# Altium schematic symbol library klpfly_v1_0.SCHLIB: 22 symbols
Pins are listed as number, name and electrical type; pins without a type are passive.

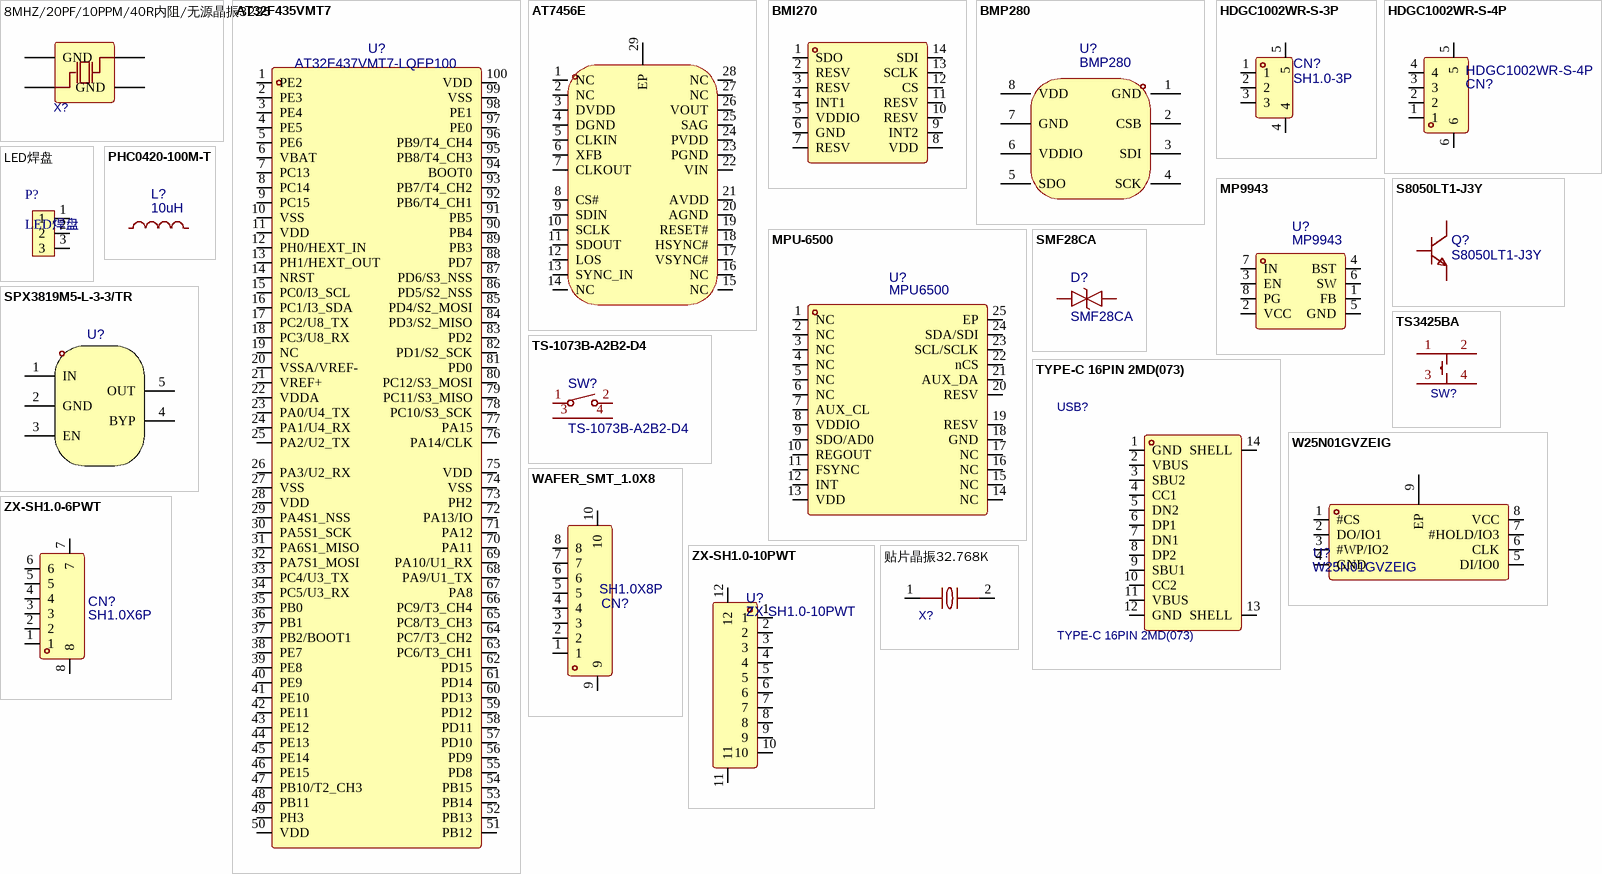
[diagram p0: symbols 8MHZ/20PF/10PPM/40R内阻/无源晶振3225 to 贴片晶振32.768K]

## 8MHZ/20PF/10PPM/40R内阻/无源晶振3225
designator X?  (value not drawn)
Manufacturer: null; Contributor: lcsc; Supplier: LCSC; Supplier Part: C9900023313; Manufacturer Part: 8Mhz/20PF/10PPM/40R内阻/无源晶振3225; JLCPCB Part Class: Extended Part; spicePre: X; spiceSymbolName: 8MHZ/20PF/10PPM/40R内阻/无源晶振3225
footprint CRYSTAL-SMD_4P-L3.2-W2.5-BL
pins: 1 OSC1, 2 GND, 3 OSC2, 4 GND

## AT32F435VMT7
designator U?, comment AT32F437VMT7-LQFP100
Manufacturer: ARTERY（雅特力）; Device: AT32F435VMT7; Convert to PCB: yes; UniqueId: ggece277d5420079038; OriginModelName: LQFP-100_L14.0-W14.0-H1.4-LS16.0-P0.50; ModelTransform: 629.921,629.921,0,270,0,0,0,0,0; Supplier: LCSC; Supplier Part: C3029578; Manufacturer Part: AT32F435VMT7; link: https://atta.szlcsc.com/upload/public/pdf/source/20220608/9A6D4578C11CEA8ECA586071DFEBC06A.pdf; Add into BOM: yes; SymbolName: AT32F437VMT7-LQFP100; FootprintName: LQFP-100_L14.0-W14.0-P0.50-LS16.0-TL
footprint LQFP-100_L14.0-W14.0-P0.50-LS16.0-TL
pins: 1 PE2, 2 PE3, 3 PE4, 4 PE5, 5 PE6, 6 VBAT, 7 PC13, 8 PC14, 9 PC15, 10 VSS, 11 VDD, 12 PH0/HEXT_IN, 13 PH1/HEXT_OUT, 14 NRST, 15 PC0/I3_SCL, 16 PC1/I3_SDA, 17 PC2/U8_TX, 18 PC3/U8_RX, 19 NC, 20 VSSA/VREF-, 21 VREF+, 22 VDDA, 23 PA0/U4_TX, 24 PA1/U4_RX, 25 PA2/U2_TX, 26 PA3/U2_RX, 27 VSS, 28 VDD, 29 PA4S1_NSS, 30 PA5S1_SCK, 31 PA6S1_MISO, 32 PA7S1_MOSI, 33 PC4/U3_TX, 34 PC5/U3_RX, 35 PB0, 36 PB1, 37 PB2/BOOT1, 38 PE7, 39 PE8, 40 PE9, 41 PE10, 42 PE11, 43 PE12, 44 PE13, 45 PE14, 46 PE15, 47 PB10/T2_CH3, 48 PB11, 49 PH3, 50 VDD, 51 PB12, 52 PB13, 53 PB14, 54 PB15, 55 PD8, 56 PD9, 57 PD10, 58 PD11, 59 PD12, 60 PD13, 61 PD14, 62 PD15, 63 PC6/T3_CH1, 64 PC7/T3_CH2, 65 PC8/T3_CH3, 66 PC9/T3_CH4, 67 PA8, 68 PA9/U1_TX, 69 PA10/U1_RX, 70 PA11, 71 PA12, 72 PA13/IO, 73 PH2, 74 VSS, 75 VDD, 76 PA14/CLK, 77 PA15, 78 PC10/S3_SCK, 79 PC11/S3_MISO, 80 PC12/S3_MOSI, 81 PD0, 82 PD1/S2_SCK, 83 PD2, 84 PD3/S2_MISO, 85 PD4/S2_MOSI, 86 PD5/S2_NSS, 87 PD6/S3_NSS, 88 PD7, 89 PB3, 90 PB4, 91 PB5, 92 PB6/T4_CH1, 93 PB7/T4_CH2, 94 BOOT0, 95 PB8/T4_CH3, 96 PB9/T4_CH4, 97 PE0, 98 PE1, 99 VSS, 100 VDD

## AT7456E
designator U??  (value not drawn)
Symbol: AT7456E
footprint TSSOP-28_L9.7-W4.4-P0.65-LS6.4-BL-EP-2
pins: 1 NC, 2 NC, 3 DVDD, 4 DGND, 5 CLKIN, 6 XFB, 7 CLKOUT, 8 CS#, 9 SDIN, 10 SCLK, 11 SDOUT, 12 LOS, 13 SYNC_IN, 14 NC, 15 NC, 16 NC, 17 VSYNC#, 18 HSYNC#, 19 RESET#, 20 AGND, 21 AVDD, 22 VIN, 23 PGND, 24 PVDD, 25 SAG, 26 VOUT, 27 NC, 28 NC, 29 EP

## BMI270
designator SDO?  (value not drawn)
Convert to PCB: yes; UniqueId: ggebe24d6cd85f7bebd; OriginModelName: LGA-14_L2.5-W3.0-H0.9-P0.50; ModelTransform: 118.11,98.425,0,0,0,0,0,0.001,0; Device: BMI270; Supplier: InvenSense; link: https://3cfeqx1hf82y3xcoull08ihx-wpengine.netdna-ssl.com/wp-content/uploads/2020/09/DS-000347-ICM-42688-P-v1.3.pdf; Add into BOM: yes; SymbolName: BMI270; FootprintName: LGA-14_L3.0-W2.5-P0.50-TL
footprint LGA-14_L3.0-W2.5-P0.50-TL
pins: 1 SDO, 2 RESV, 3 RESV, 4 INT1, 5 VDDIO, 6 GND, 7 RESV, 8 VDD, 9 INT2, 10 RESV, 11 RESV, 12 CS, 13 SCLK, 14 SDI

## BMP280
designator U?
Manufacturer: Bosch; Convert to PCB: yes; UniqueId: gge447de30e0e3d1cf2; OriginModelName: LGA-8_L2.0-W2.5-H1.0-P0.65; ModelTransform: 98.425,78.74,0,270,0,0,0.005,-0.001,0; Device: BMP280; Supplier: LCSC; Manufacturer Part: BMP280; Supplier Part: C83291; JLCPCB Part Class: Extended Part; Add into BOM: yes; SymbolName: BMP280; FootprintName: SENSOR-TH_BMP280-BL
footprint SENSOR-TH_BMP280-BL
pins: 1 GND, 2 CSB, 3 SDI, 4 SCK, 5 SDO, 6 VDDIO, 7 GND, 8 VDD

## HDGC1002WR-S-3P
designator CN?, comment SH1.0-3P
SH1.0 3P; Manufacturer: HDGC(华德共创); Device: HDGC1002WR-S-3P; Convert to PCB: yes; UniqueId: gge2ce44b7eaad9832b; OriginModelName: CONN-SMD_3P-P1.00_HDGC_HDGC1002WR-S-3P; ModelTransform: 210.63,196.85,0,0,0,0,0,-9.565,0; Supplier: LCSC; Supplier Part: C2936213; Manufacturer Part: HDGC1002WR-S-3P; JLCPCB Part Class: Extended Part; Add into BOM: yes; SymbolName: SH1.0-3P; FootprintName: CONN-SMD_3P-P1.00_HDGC_HDGC1002WR-S-3P
footprint CONN-SMD_3P-P1.00_HDGC_HDGC1002WR-S-3P
pins: 1, 2, 3, 4, 5

## HDGC1002WR-S-4P
designator CN?
SH1.0 4P; Manufacturer: HDGC(华德共创); Convert to PCB: yes; UniqueId: ggee5a51ee7bd50bb1d; OriginModelName: CONN-SMD_4P-P1.00_HDGC_HDGC1002WR-S-4P; ModelTransform: 249.9995,196.85,0,0,0,0,0,-5.906,0; Device: HDGC1002WR-S-4P; Supplier: LCSC; Supplier Part: C2936214; Manufacturer Part: HDGC1002WR-S-4P; JLCPCB Part Class: Extended Part; Add into BOM: yes; SymbolName: HDGC1002WR-S-4P; FootprintName: CONN-SMD_4P-P1.00_HDGC_HDGC1002WR-S-4P
footprint CONN-SMD_4P-P1.00_HDGC_HDGC1002WR-S-4P
pins: 1, 2, 3, 4, 5, 6

## LED焊盘
designator P?
footprint 3P
pins: 1, 2, 3

## MP9943
designator U?
Convert to PCB: yes; UniqueId: ggeb87cc7bca5c8949e; Device: MP9943; Add into BOM: yes; SymbolName: MP9943; FootprintName: QFN-8-3X3
footprint QFN-8-3X3
pins: 1 FB, 2 VCC, 3 EN, 4 BST, 5 GND, 6 SW, 7 IN, 8 PG

## MPU-6500
designator U?, comment MPU6500
Manufacturer: TDK InvenSense(应美盛); Convert to PCB: yes; UniqueId: gge6fb0faa0bb8ee760; OriginModelName: QFN-24_L3.0-W3.0-H0.9-P0.40-BL-EP; ModelTransform: 118.11,118.11,0,90,0,0,0,0,0; Device: MPU-6500; Supplier: LCSC; Manufacturer Part: MPU-6500; Supplier Part: C50278; JLCPCB Part Class: Extended Part; Add into BOM: yes; SymbolName: MPU6500; FootprintName: QFN-24_L3.0-W3.0-P0.40-BL-EP
footprint QFN-24_L3.0-W3.0-P0.40-BL-EP
pins: 1 NC, 2 NC, 3 NC, 4 NC, 5 NC, 6 NC, 7 AUX_CL, 8 VDDIO, 9 SDO/AD0, 10 REGOUT, 11 FSYNC, 12 INT, 13 VDD, 14 NC, 15 NC, 16 NC, 17 NC, 18 GND, 19 RESV, 20 RESV, 21 AUX_DA, 22 nCS, 23 SCL/SCLK, 24 SDA/SDI, 25 EP

## PHC0420-100M-T
designator L?, comment 10uH
Manufacturer: EMTEK; Device: PHC0420-100M-T; Convert to PCB: yes; UniqueId: gge99af4ca34bfde78c; OriginModelName: IND-SMD_L4.4-W4.0-H1.2_PHC0420; ModelTransform: 175.1965,159.842,0,0,0,0,0,0,0; Supplier: LCSC; Supplier Part: C251694; Manufacturer Part: PHC0420-100M-T; Add into BOM: yes; SymbolName: 10uH; FootprintName: IND-SMD_L4.4-W4.0_PHC0420
footprint IND-SMD_L4.4-W4.0_PHC0420
pins: 1, 2

## S8050LT1-J3Y
designator Q?
Manufacturer: FH(风华); Convert to PCB: yes; UniqueId: gge1c8eb3e3ebf663b6; OriginModelName: SOT-23-3P_L2.9-W1.3-H1.0-LS2.4-P0.95; ModelTransform: 98.64468,114.173,0,180,0,0,0.001,0.001,0; Device: S8050LT1-J3Y; Supplier: LCSC; Supplier Part: C2962087; Manufacturer Part: S8050LT1-J3Y; link: https://atta.szlcsc.com/upload/public/pdf/source/20220411/740B3F4857AB400E9826209E74F1EDA4.pdf; Add into BOM: yes; SymbolName: S8050LT1-J3Y; FootprintName: SOT-23_L2.9-W1.3-P1.90-LS2.4-BR
footprint SOT-23_L2.9-W1.3-P1.90-LS2.4-BR
pins: 1, 2, 3

## SMF28CA
designator D?
Manufacturer: AnBon(安邦); Convert to PCB: yes; UniqueId: gge8336ca0810bb463b; OriginModelName: SOD-123_L2.7-W1.8-LS3.7-BI; ModelTransform: 145.669,70.866,0,0,0,0,0,0,0; Device: SMF28CA; Supplier: LCSC; Supplier Part: C435496; Manufacturer Part: SMF28CA; JLCPCB Part Class: Extended Part; link: https://so.szlcsc.com/global.html?k=C435496&ref=editor; Add into BOM: yes; SymbolName: SMF28CA; FootprintName: SOD-123_L2.7-W1.8-LS3.7-BI
footprint SOD-123_L2.7-W1.8-LS3.7-BI
pins: 1, 2

## SPX3819M5-L-3-3/TR
designator U?  (value not drawn)
Manufacturer: MaxLinear(迈凌); Convert to PCB: yes; UniqueId: gge70c12bce5ebcd7d5; OriginModelName: SOT-23-5_L2.9-W1.6-H1.1-LS2.8-P0.95; ModelTransform: 114.173,109.636,0,180,0,0,0,-0.001,0; Device: SPX3819M5-L-3-3/TR; Supplier: LCSC; Manufacturer Part: SPX3819M5-L-3-3/TR; Supplier Part: C9055; JLCPCB Part Class: Extended Part; Add into BOM: yes; SymbolName: SPX3819M5-L-3-3/TR; FootprintName: SOT-23-5_L3.0-W1.7-P0.95-LS2.8-BL
footprint SOT-23-5_L3.0-W1.7-P0.95-LS2.8-BL
pins: 1 IN, 2 GND, 3 EN, 4 BYP, 5 OUT

## TS3425BA
designator SW?  (value not drawn)
Manufacturer: SHOU HAN(首韩); Contributor: LCSC; Package Display: No; Supplier: LCSC; Supplier Part: C2681476; Manufacturer Part: TS3425BA; JLCPCB Part Class: Extended Part; spicePre: S; spiceSymbolName: TS3425BA
footprint SW-SMD_4P-L4.2-W3.2-P2.15-LS4.6-1
pins: 1, 2, 3, 4

## TS-1073B-A2B2-D4
designator SW?
Manufacturer: Yuandi(元迪); Convert to PCB: yes; UniqueId: gge673417370de76ff0; OriginModelName: KEY-SMD_TS-1073B-A2B2-D4; ModelTransform: 188.976,137.795,0,0,0,0,0.66,24.554,-15.748; Device: TS-1073B-A2B2-D4; Supplier: LCSC; Supplier Part: C492942; Manufacturer Part: TS-1073B-A2B2-D4; JLCPCB Part Class: Extended Part; link: https://so.szlcsc.com/global.html?k=C492942&ref=editor; Add into BOM: yes; SymbolName: TS-1073B-A2B2-D4; FootprintName: KEY-SMD_TS-1073B-A2B2-D4
footprint KEY-SMD_TS-1073B-A2B2-D4
pins: 1, 2, 3, 4

## TYPE-C 16PIN 2MD(073)
designator USB?
Manufacturer: SHOU HAN(首韩); Contributor: LCSC; Package Display: Yes; Supplier: LCSC; Supplier Part: C2765186; Manufacturer Part: TYPE-C 16PIN 2MD(073); JLCPCB Part Class: Extended Part; spicePre: U; spiceSymbolName: TYPE-C 16PIN 2MD(073)
footprint USB-C-SMD_TYPE-C-6PIN-2MD-073
pins: 1 GND, 2 VBUS, 3 SBU2, 4 CC1, 5 DN2, 6 DP1, 7 DN1, 8 DP2, 9 SBU1, 10 CC2, 11 VBUS, 12 GND, 13 SHELL, 14 SHELL

## W25N01GVZEIG
designator U?
Manufacturer: Winbond Elec; Convert to PCB: yes; UniqueId: ggee63176ef5aab684c; OriginModelName: WSON-8_L8.0-W6.0-H0.8-P1.27; ModelTransform: 315.7474,236.22,0,0,0,0,0,0,0; Device: W25N01GVZEIG; Supplier: LCSC; Supplier Part: C88868; Manufacturer Part: W25N01GVZEIG; JLCPCB Part Class: Extended Part; Add into BOM: yes; SymbolName: W25N01GVZEIG; FootprintName: WSON-8_L8.0-W6.10-P1.27-EP
footprint WSON-8_L8.0-W6.10-P1.27-EP
pins: 1 #CS, 2 DO/IO1, 3 #WP/IO2, 4 GND, 5 DI/IO0, 6 CLK, 7 #HOLD/IO3, 8 VCC, 9 EP

## WAFER_SMT_1.0X8
designator CN?, comment SH1.0X8P
SH1.0 8P; Manufacturer: null; Device: WAFER_SMT_1.0X8; Convert to PCB: yes; UniqueId: ggebe725300a9fc9f2b; OriginModelName: CONN-SMD_8P-P1.00_WAFER-SH1.0-8PWB; ModelTransform: 407.873,198.8185,0,0,0,0,-0.001,-16.732,0; Supplier: LCSC; Supplier Part: C9900021939; Manufacturer Part: WAFER_SMT_1.0X8; JLCPCB Part Class: Extended Part; Add into BOM: yes; SymbolName: SH1.0X8P; FootprintName: CONN-SMD_8P-P1.00_WAFER-SH1.0-8PWB
footprint CONN-SMD_8P-P1.00_WAFER-SH1.0-8PWB
pins: 1, 2, 3, 4, 5, 6, 7, 8, 9, 10

## ZX-SH1.0-6PWT
designator CN?, comment SH1.0X6P
SH1.0 6P; Manufacturer: Megastar(兆星); Device: ZX-SH1.0-6PWT; Convert to PCB: yes; UniqueId: ggecd9d3fcf4734ba22; OriginModelName: CONN-SMD_6P-P1.00_MEGASTAR_ZX-SH1.0-6PWT; ModelTransform: 329.1332,198.8185,0,0,0,0,0.002,-7.876,0; Supplier: LCSC; Supplier Part: C7430448; Manufacturer Part: ZX-SH1.0-6PWT; JLCPCB Part Class: Extended Part; link: https://so.szlcsc.com/global.html?k=C7430448&ref=editor; Add into BOM: yes; SymbolName: SH1.0X6P; FootprintName: CONN-SMD_6P-P1.00_MEGASTAR_ZX-SH1.0-6PWT
footprint CONN-SMD_6P-P1.00_MEGASTAR_ZX-SH1.0-6PWT
pins: 1, 2, 3, 4, 5, 6, 7, 8

## ZX-SH1.0-10PWT
designator U?
SH1.0 10P; Manufacturer: Megastar(兆星); Convert to PCB: yes; UniqueId: gge7200404e0632cc6f; OriginModelName: CONN-SMD_10P-P1.00_ZX-SH1.0-10PWT; ModelTransform: 486.613,198.8185,0,0,0,0,-0.001,-6.062,0; Device: ZX-SH1.0-10PWT; Supplier: LCSC; Supplier Part: C19272377; Manufacturer Part: ZX-SH1.0-10PWT; Add into BOM: yes; SymbolName: ZX-SH1.0-10PWT; FootprintName: CONN-SMD_10P-P1.00_ZX-SH1.0-10PWT
footprint CONN-SMD_10P-P1.00_ZX-SH1.0-10PWT
pins: 1, 2, 3, 4, 5, 6, 7, 8, 9, 10, 11, 12

## 贴片晶振32.768K
designator X?  (value not drawn)
Contributor: LCSC; Supplier: LCSC; Supplier Part: C9900003950; Manufacturer Part: 贴片晶振32.768k; JLCPCB Part Class: Extended Part; spicePre: X; spiceSymbolName: 贴片晶振32.768K
footprint OSC-SMD_2P-L3.2-W1.5-1
pins: 1, 2